# Altium footprint library switch.PcbLib: 1 footprints
Each footprint in its own frame and in the unit in brackets; x right, y up, seen from the top. Pads: shape width x height; smd on the part's side, far side on the other; paste and mask are expansions set on the pad; w line width, h text height; cw(c..) or ccw(c..) is an arc to the next point about the centre after c.
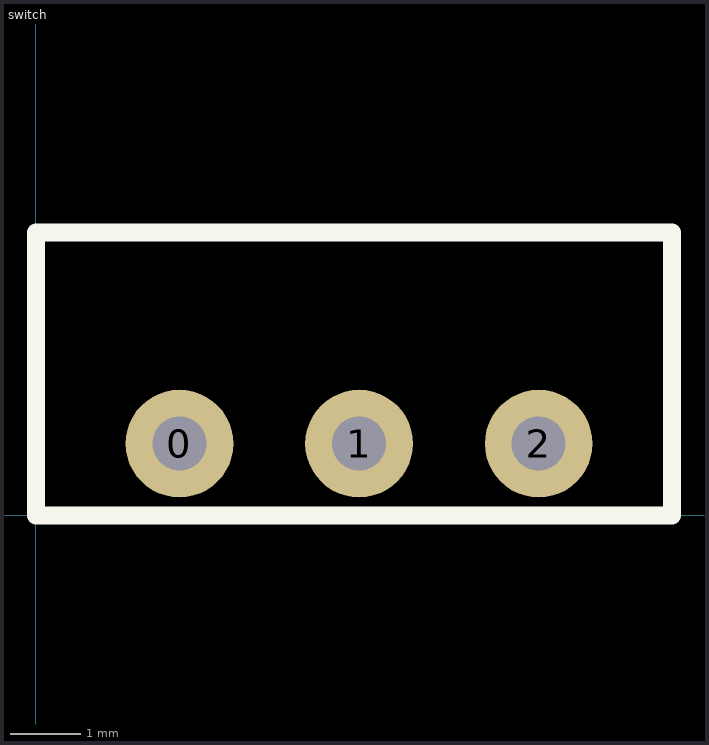
[diagram p0: the footprint, top view; thin cyan lines are the x and y axes]

## switch [mil]
pads (3):
  round 60 hole 30: 0(80,40) 1(180,40) 2(280,40)
Top Overlay:
  lines w10: 0,0 354.33,0 354.33,157.48 0,157.48 0,0